# Altium footprint library Wurth_Elektronik_Passive_rev16a.PCBLIB: 810 footprints (part 4 of 51)
Each footprint in its own frame and in the unit in brackets; x right, y up, seen from the top. Pads: shape width x height; smd on the part's side, far side on the other; paste and mask are expansions set on the pad; w line width, h text height; cw(c..) or ccw(c..) is an arc to the next point about the centre after c.
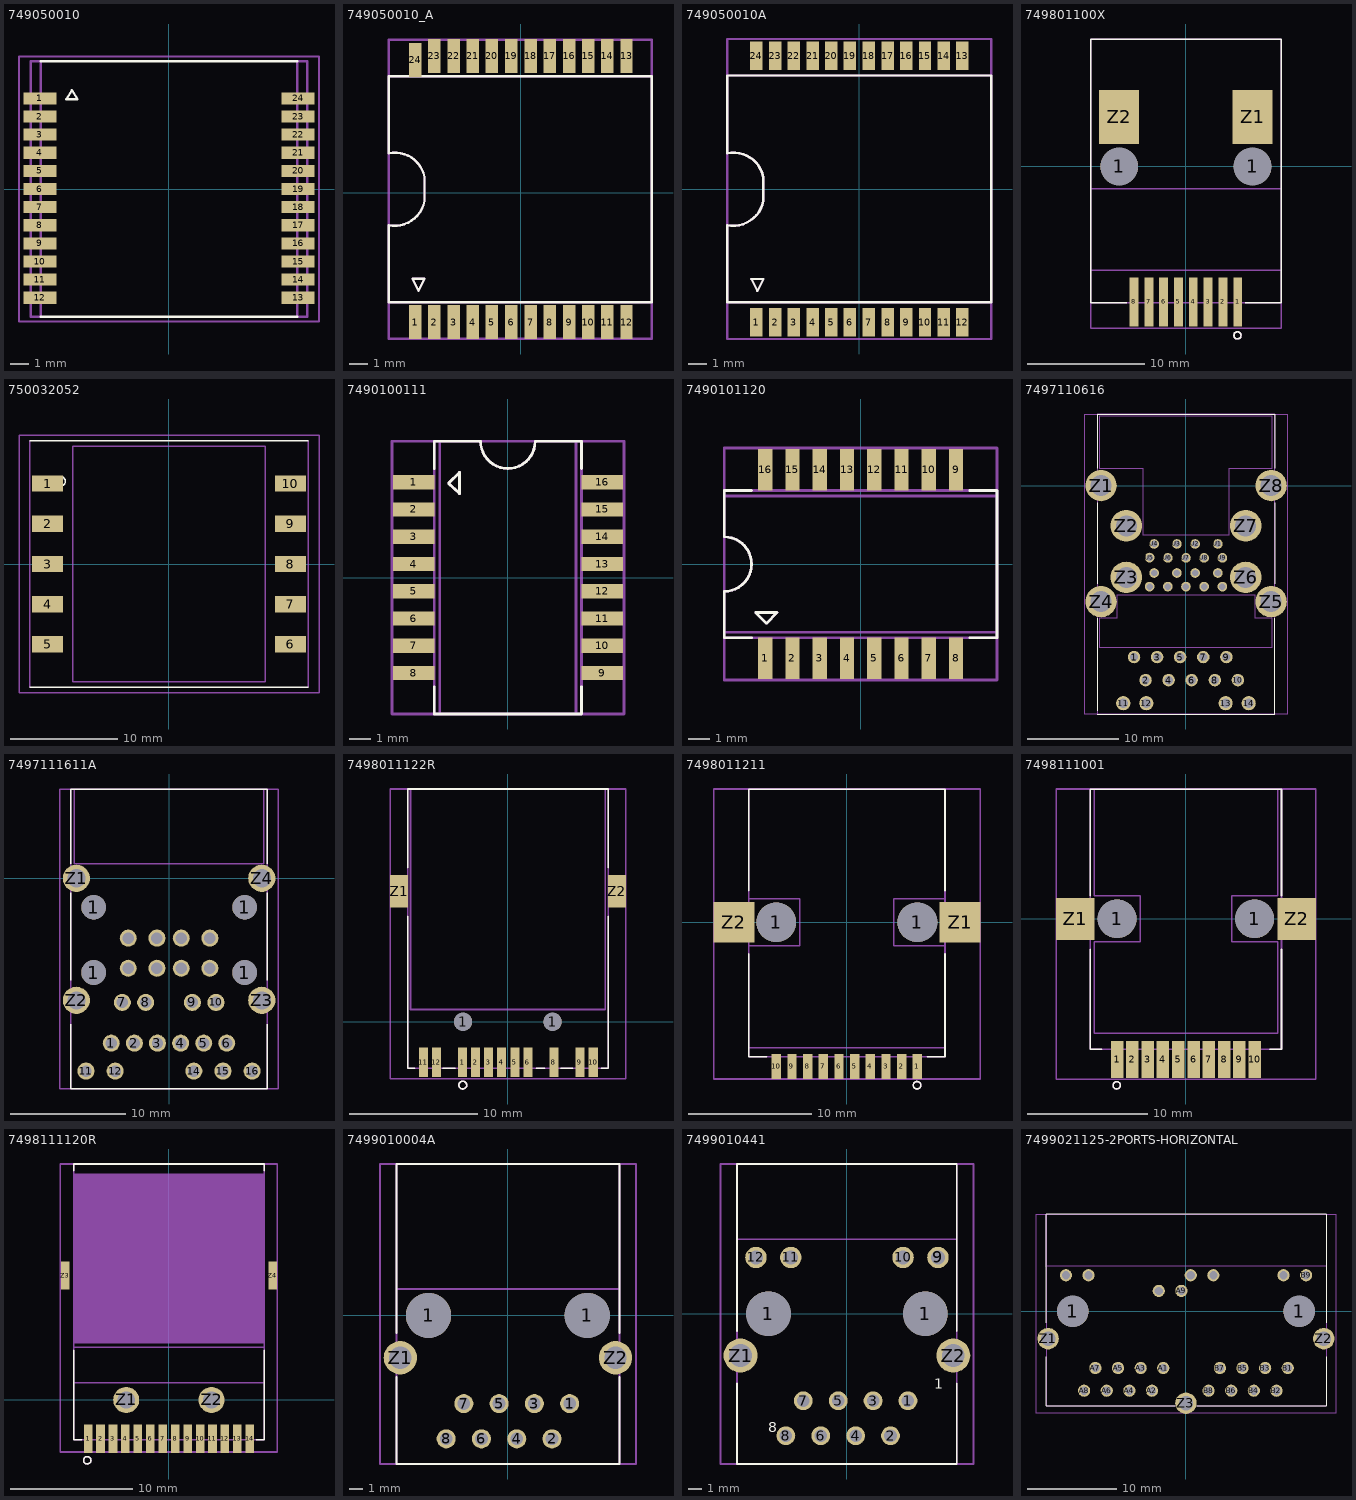
[diagram p3: the footprints below, top view; thin cyan lines are the x and y axes]

## 749050010 [mil]
pads (24):
  rect 71x26 smd: 1(-277.56,195) 2(-277.56,156) 3(-277.56,117) 4(-277.56,78) 5(-277.56,39) 6(-277.56,0) 7(-277.56,-38.98) 8(-277.56,-77.95) 9(-277.56,-116.93) 10(-277.56,-155.91) 11(-277.56,-194.88) 12(-277.56,-233.86) 13(278,-233.86) 14(278,-194.88) 15(278,-155.91) 16(278,-116.93) 17(278,-77.95) 18(278,-38.98) 19(278,0) 20(278,39) 21(278,78) 22(278,117) 23(278,156) 24(278,195)
Top Overlay:
  lines w5: -275.59,-275 276,-275 ; -275.59,275 276,275 ; -220.47,193 -208.66,213 -196.85,193 -220.47,193
Mechanical 2:
  text ">NAME" at -350,300 h77.5
Mechanical 4:
  lines w5: -297.44,-275 -275.59,-275 ; -297.44,275 -275.59,275 ; 276,-275 298,-275 ; 276,275 298,275
  text ">VALUE" at -350,-350 h77.5
Mechanical 16:
  lines w5: -297.44,-275 -297.44,275 ; -275.59,-275 -275.59,275 ; 276,-275 276,275 ; 298,-275 298,275
Mechanical 27:
  lines w5: -322.44,-284.84 -322.44,285 323,285 323,-284.84 -322.44,-284.84

## 749050010_A [mil]
pads (24):
  rect 26x71 smd: 1(-220.87,-270.08) 2(-180.71,-270.08) 3(-140.55,-270.08) 4(-100.39,-270.08) 5(-60.24,-270.08) 6(-20.08,-270.08) 7(21,-270.08) 8(61,-270.08) 9(101,-270.08) 10(141,-270.08) 11(181,-270.08) 12(221,-270.08) 13(221,286) 14(181,286) 15(141,286) 16(101,286) 17(61,286) 18(21,286) 19(-20.08,286) 20(-60.24,286) 21(-100.39,286) 22(-140.55,286) 23(-180.71,286) 24(-220.87,278)
Top Overlay:
  lines w5: -276.18,-228.74 274,-228.74 274,244 -276.18,244 -276.18,83 cw(c-263.68,20.5) -201.18,33 -201.18,-17.52 cw(c-263.68,-5.02) -276.18,-67.52 -276.18,-228.74 ; -226.18,-180.02 -213.68,-205.02 -201.18,-180.02 -226.18,-180.02
Mechanical 2:
  text ">NAME" at -301.18,-130.02 h77.5
Mechanical 4:
  text ">VALUE" at 349,-117.52 h77.5
Mechanical 10:
  lines w5: -276.18,-228.74 274,-228.74 274,244 -276.18,244 -276.18,-228.74
Mechanical 16:
  lines w5: -276.18,-228.74 274,-228.74 274,244 -276.18,244 -276.18,83 cw(c-263.68,20.5) -201.18,33 -201.18,-17.52 cw(c-263.68,-5.02) -276.18,-67.52 -276.18,-228.74 ; -226.18,-180.02 -213.68,-205.02 -201.18,-180.02 -226.18,-180.02
Mechanical 27:
  lines w5: -276.18,-305.02 274,-305.02 274,320 -276.18,320 -276.18,-305.02

## 749050010A [mil]
pads (24):
  rect 26x60 smd: 1(-214.37,-277.56) 2(-175.39,-277.56) 3(-136.42,-277.56) 4(-97.44,-277.56) 5(-58.46,-277.56) 6(-19.49,-277.56) 7(20,-277.56) 8(59,-277.56) 9(98,-277.56) 10(137,-277.56) 11(176,-277.56) 12(215,-277.56) 13(215,278) 14(176,278) 15(137,278) 16(98,278) 17(59,278) 18(20,278) 19(-19.49,278) 20(-58.46,278) 21(-97.44,278) 22(-136.42,278) 23(-175.39,278) 24(-214.37,278)
Top Overlay:
  lines w5: -275,-236.22 275,-236.22 275,237 -275,237 -275,75 cw(c-262.5,12.5) -200,25 -200,-25 cw(c-262.5,-12.5) -275,-75 -275,-236.22 ; -225,-187.5 -212.5,-212.5 -200,-187.5 -225,-187.5
Mechanical 2:
  text ">NAME" at -300,-137.5 h77.5
Mechanical 4:
  text ">VALUE" at 350,-125 h77.5
Mechanical 10:
  lines w5: -275,-236.22 275,-236.22 275,237 -275,237 -275,-236.22
Mechanical 16:
  lines w5: -275,-236.22 275,-236.22 275,237 -275,237 -275,75 cw(c-262.5,12.5) -200,25 -200,-25 cw(c-262.5,-12.5) -275,-75 -275,-236.22 ; -225,-187.5 -212.5,-212.5 -200,-187.5 -225,-187.5
Mechanical 27:
  lines w5: -275,-312.5 275,-312.5 275,313 -275,313 -275,-312.5

## 749801100X [mil]
pads (12):
  round 127 hole 127: 1(-225,0) 1(225,0)
  rect 30x165 smd: 1(175,-457.09) 2(125,-457.09) 3(75,-457.09) 4(25,-457.09) 5(-25,-457.09) 6(-75,-457.09) 7(-125,-457.09) 8(-175,-457.09)
  rect 135x181 smd: Z1(225,167) Z2(-225,167)
Top Overlay:
  circle w5: c174,-569.98 r12
  lines w5: -200,-459.84 -320.08,-459.84 -320.08,430 321,430 321,-459.84 200,-459.84
Mechanical 2:
  text ">NAME" at -25.1,482 h77.5
Mechanical 4:
  text ">VALUE" at -25.1,-625.69 h77.5
Mechanical 10:
  lines w5: -320.08,-350 321,-350 321,-75 200,-75 150,-75 -320.08,-75 -320.08,-350
Mechanical 16:
  circle w5: c174,-569.98 r12
  lines w5: -320.08,-459.84 321,-459.84 321,430 -320.08,430 -320.08,-459.84
Mechanical 27:
  lines w5: -320.08,-545.87 -320.08,430 321,430 321,-545.87 -320.08,-545.87

## 750032052 [mil]
pads (10):
  rect 115x60 smd: 1(-446.06,296) 2(-446.06,148) 3(-446.06,0) 4(-446.06,-147.64) 5(-446.06,-295.28) 6(447,-295.28) 7(447,-147.64) 8(447,0) 9(447,148) 10(447,296)
Top Overlay:
  circle w5: c-397.64,304 r17
  lines w5: -511.81,-452.76 512,-452.76 ; -511.81,453 512,453
Mechanical 2:
  text ">NAME" at -492.13,512 h77.5
Mechanical 4:
  text ">VALUE" at -492.13,-551.18 h77.5
Mechanical 10:
  lines w5: -354.33,-433.07 355,-433.07 355,434 -354.33,434 -354.33,-433.07
Mechanical 16:
  lines w5: -511.81,-452.76 -511.81,453 ; 512,-452.76 512,453
Mechanical 27:
  lines w5: -551.18,-472.44 552,-472.44 552,473 -551.18,473 -551.18,-472.44

## 7490100111 [mil]
pads (16):
  rect 76x26 smd: 1(-172.64,175) 2(-172.64,125) 3(-172.64,75) 4(-172.64,25) 5(-172.64,-25) 6(-172.64,-75) 7(-172.64,-125) 8(-172.64,-175) 9(173,-175) 10(173,-125) 11(173,-75) 12(173,-25) 13(173,25) 14(173,75) 15(173,125) 16(173,175)
Top Overlay:
  lines w5: -134.84,-200 -134.84,-250 135,-250 135,-200 ; -134.84,200 -134.84,250 -50,250 ccw(c0,250) 0,200 ccw(c0,250) 50,250 135,250 135,200 ; -108.46,173 -88.78,154 -88.78,193 -108.46,173
Mechanical 2:
  text ">NAME" at -118.11,276 h77.5
Mechanical 4:
  text ">VALUE" at -137.8,-334.65 h77.5
Mechanical 10:
  lines w5: -137.5,-250 -125,-250 ; -125,-250 125,-250 125,250 -125,250 -125,-250
Mechanical 16:
  lines w5: -134.84,-250 135,-250 135,250 50,250 cw(c0,250) 0,200 cw(c0,250) -50,250 -134.84,250 -134.84,-250 ; -108.46,173 -88.78,154 -88.78,193 -108.46,173
Mechanical 27:
  lines w5: -212.5,-250 -212.5,250 213,250 213,-250 -212.5,-250

## 7490101120 [mil]
pads (16):
  rect 26x76 smd: 1(-175,-172.64) 2(-125,-172.64) 3(-75,-172.64) 4(-25,-172.64) 5(25,-172.64) 6(75,-172.64) 7(125,-172.64) 8(175,-172.64) 9(175,173) 10(125,173) 11(75,173) 12(25,173) 13(-25,173) 14(-75,173) 15(-125,173) 16(-175,173)
Top Overlay:
  lines w5: -200,-134.84 -250,-134.84 -250,-50 ccw(c-250,0) -200,0 ccw(c-250,0) -250,50 -250,135 -200,135 ; 200,-134.84 250,-134.84 250,135 200,135 ; -192.52,-88.78 -172.83,-108.46 -153.15,-88.78 -192.52,-88.78
Mechanical 2:
  text ">NAME" at -275.59,-118.11 h77.5
Mechanical 4:
  text ">VALUE" at 335,-137.8 h77.5
  text ">VALUE" at 335,-137.8 h77.5
Mechanical 10:
  lines w5: -250,-125 250,-125 250,125 -250,125 -250,-125
Mechanical 16:
  lines w5: -250,-134.84 -250,-50 ccw(c-250,0) -200,0 ccw(c-250,0) -250,50 -250,135 250,135 250,-134.84 -250,-134.84 ; -192.52,-88.78 -172.83,-108.46 -153.15,-88.78 -192.52,-88.78
Mechanical 27:
  lines w5: -250,-212.5 250,-212.5 250,213 -250,213 -250,-212.5

## 7497110616 [mil]
pads (40):
  round 54 hole 36: 1(-225,-743.31) 2(-175,-843.31) 3(-125,-743.31) 4(-75,-843.31) 5(-25,-743.31) 6(25,-843.31) 7(75,-743.31) 8(125,-843.31) 9(175,-743.31) 10(225,-843.31)
  round 61.5 hole 41: 11(-271.65,-943.31) 12(-171.65,-943.31) 13(172,-943.31) 14(272,-943.31)
  round 42 hole 28: U1(138,-253.15) U2(40,-253.15) U3(-39.37,-253.15) U4(-137.8,-253.15) U5(-157.48,-312.2) U6(-78.74,-313.39) U7(0,-313.39) U8(79,-313.39) U9(158,-313.39) U10(138,-379.13) U11(40,-379.13) U12(-39.37,-379.13) U13(-137.8,-379.13) U14(-157.48,-438.19) U15(-78.74,-438.19) U16(0,-438.19) U17(79,-438.19) U18(158,-438.19)
  round 136.5 hole 91: Z1(-368.11,0) Z2(-258.66,-174.41) Z3(-258.66,-398.03) Z4(-368.11,-503.15) Z5(369,-503.15) Z6(259,-398.03) Z7(259,-174.41) Z8(369,0)
Top Overlay:
  lines w5: -383.86,-990.16 384,-990.16 384,-575 ; -383.86,-975 -383.86,-575 ; -383.86,-425 -383.86,-75 ; -383.86,75 -383.86,310 384,310 384,75 ; 384,-425 384,-75
Mechanical 2:
  text ">NAME" at -96.65,318 h77.5
Mechanical 4:
  text ">VALUE" at -146.65,-1050.43 h77.5
Mechanical 10:
  lines w5: -375,-700 375,-700 375,-575 300,-575 300,-475 -300,-475 -300,-575 -375,-575 -375,-700 ; -375,75 -375,300 375,300 375,75 188,75 188,-212.5 -187.5,-212.5 -187.5,75 -375,75
Mechanical 16:
  lines w5: -383.86,-990.16 384,-990.16 384,310 -383.86,310 -383.86,-990.16
Mechanical 27:
  lines w5: -437.5,-990.16 438,-990.16 438,310 -437.5,310 -437.5,-990.16

## 7497111611A [mil]
pads (31):
  round 84 hole 84: 1(-258.46,-322.83) 1(-258.46,-98.82) 1(259,-322.83) 1(259,-98.82)
  round 58.5 hole 39: 1(-197.83,-564.96) 2(-118.7,-564.96) 3(-39.57,-564.96) 4(40,-564.96) 5(119,-564.96) 6(198,-564.96) 7(-160.04,-425.2) 8(-79.92,-425.2) 9(80,-425.2) 10(161,-425.2) 11(-284.45,-660.63) 12(-184.45,-660.63) 14(85,-660.63) 15(185,-660.63) 16(285,-660.63) USB1-1(140,-205.12) USB1-2(42,-205.12) USB1-3(-41.34,-205.12) USB1-4(-139.76,-205.12) USB2-1(140,-308.27) USB2-2(42,-308.27) USB2-3(-41.34,-308.27) USB2-4(-139.76,-308.27)
  round 93 hole 62: Z1(-317.52,0) Z2(-317.52,-418.11) Z3(318,-418.11) Z4(318,0)
Top Overlay:
  lines w5: -336.42,-500 -336.42,-722.05 337,-722.05 337,-500 ; -336.42,-350 -336.42,-50 ; -336.42,50 -336.42,306 337,306 337,50 ; 337,-350 337,-50
Mechanical 2:
  text ">NAME" at -129.53,314 h77.5
Mechanical 4:
  text ">VALUE" at -129.53,-774.02 h77.5
Mechanical 10:
  lines w5: -325,50 325,50 325,306 -325,306 -325,50
Mechanical 16:
  lines w5: -336.42,-722.05 337,-722.05 337,306 -336.42,306 -336.42,-722.05
Mechanical 27:
  lines w5: -375,-722.05 375,-722.05 375,306 -375,306 -375,-722.05

## 7498011122R [mil]
pads (15):
  rect 28x91 smd: 1(-139.57,-125.2) 2(-99.41,-125.2) 3(-59.25,-125.2) 4(-19.09,-125.2) 5(22,-125.2) 6(62,-125.2) 8(142,-125.2) 9(222,-125.2) 10(263,-125.2) 11(-260.04,-125.2) 12(-219.88,-125.2)
  round 56 hole 56: 1(-137.8,0) 1(138,0)
  rect 56x100 smd: Z1(-335.04,402) Z2(336,402)
Top Overlay:
  circle w5: c-138.78,-194.98 r12
  lines w5: -308.07,325 -308.07,-142.91 -287.5,-142.91 ; -308.07,475 -308.07,717 309,717 309,475 ; -200,-142.91 -162.5,-142.91 ; 88,-142.91 113,-142.91 ; 163,-142.91 200,-142.91 ; 288,-142.91 309,-142.91 309,325
Mechanical 2:
  text ">NAME" at -110.8,750 h77.5
Mechanical 4:
  text ">VALUE" at -123.3,-271.12 h77.5
Mechanical 10:
  lines w5: -300,38 300,38 300,717 -300,717 -300,38
Mechanical 16:
  circle w5: c-138.78,-194.98 r12
  lines w5: -308.07,-142.91 309,-142.91 309,717 -308.07,717 -308.07,-142.91
Mechanical 27:
  lines w5: -362.5,-175 363,-175 363,717 -362.5,717 -362.5,-175

## 7498011211 [mil]
pads (14):
  round 127 hole 127: 1(-225,0) 1(225,0)
  rect 30x80 smd: 1(225,-459.84) 2(175,-459.84) 3(125,-459.84) 4(75,-459.84) 5(25,-459.84) 6(-25,-459.84) 7(-75,-459.84) 8(-125,-459.84) 9(-175,-459.84) 10(-225,-459.84)
  rect 130x130 smd: Z1(361,0) Z2(-360.04,0)
Top Overlay:
  circle w5: c224,-519.98 r12
  lines w5: -312.6,-100 -312.6,-428.74 -255.91,-428.74 ; -312.6,100 -312.6,424 313,424 313,100 ; 256,-428.74 313,-428.74 313,-100
Mechanical 2:
  text ">NAME" at -125.1,432 h77.5
Mechanical 4:
  text ">VALUE" at -125.1,-625.69 h77.5
Mechanical 10:
  lines w5: -312.6,-400 313,-400 313,-75 150,-75 150,75 313,75 313,424 -312.6,424 -312.6,75 -150,75 -150,-75 -312.6,-75 -312.6,-400
Mechanical 16:
  circle w5: c224,-519.98 r12
  lines w5: -312.6,-428.74 313,-428.74 313,424 -312.6,424 -312.6,-428.74
Mechanical 27:
  lines w5: -425,-500 425,-500 425,425 -425,425 -425,-500

## 7498111001 [mil]
pads (14):
  rect 41x121 smd: 1(-225,-459.84) 2(-175,-459.84) 3(-125,-459.84) 4(-75,-459.84) 5(-25,-459.84) 6(25,-459.84) 7(75,-459.84) 8(125,-459.84) 9(175,-459.84) 10(225,-459.84)
  round 127 hole 127: 1(-225,0) 1(225,0)
  rect 126x138 smd: Z1(-362.2,0) Z2(363,0)
Top Overlay:
  circle w5: c-226.28,-544.98 r12
  lines w5: -312.6,-100 -312.6,-426.77 -275,-426.77 ; -312.6,75 -312.6,424 313,424 313,75 ; 275,-426.77 313,-426.77 313,-100
Mechanical 2:
  text ">NAME" at -131.15,482 h77.5
Mechanical 4:
  text ">VALUE" at -131.15,-613.77 h77.5
Mechanical 10:
  lines w5: -300,-375 300,-375 300,-75 150,-75 150,75 300,75 300,424 -300,424 -300,75 -150,75 -150,-75 -300,-75 -300,-375
Mechanical 16:
  circle w5: c-226.28,-544.98 r12
  lines w5: -312.6,-426.77 -312.6,424 313,424 313,-426.77 -312.6,-426.77
Mechanical 27:
  lines w5: -425,-525 425,-525 425,425 -425,425 -425,-525

## 7498111120R [mil]
pads (18):
  rect 28x91 smd: 1(-261.02,-125.2) 2(-220.87,-125.2) 3(-180.71,-125.2) 4(-140.55,-125.2) 5(-100.39,-125.2) 6(-60.24,-125.2) 7(-20.08,-125.2) 8(21,-125.2) 9(61,-125.2) 10(101,-125.2) 11(141,-125.2) 12(181,-125.2) 13(221,-125.2) 14(262,-125.2) Z3(-335.04,402) Z4(336,402)
  round 84 hole 56: Z1(-137.8,0) Z2(138,0)
Top Overlay:
  circle w5: c-263.78,-194.98 r12
  lines w5: -308.07,161 -308.07,-128.74 -281.1,-128.74 ; -308.07,741 -308.07,763 309,763 309,741 ; 282,-128.74 309,-128.74 309,161
Mechanical 1:
  rectangle: -307.48,182 308,732
Mechanical 10:
  lines w5: -308.07,55 309,55 309,170 -308.07,170 -308.07,55
Mechanical 11:
  rectangle: -307.48,182 308,732
Mechanical 16:
  circle w5: c-263.78,-194.98 r12
  lines w5: -308.07,-128.74 309,-128.74 309,763 -308.07,763 -308.07,-128.74
Mechanical 27:
  lines w5: -350.57,-168.25 351,-168.25 351,763 -350.57,763 -350.57,-168.25

## 7499010004A [mil]
pads (12):
  round 128 hole 128: 1(-225,0) 1(225,0)
  round 54 hole 36: 1(175,-250) 2(125,-350) 3(75,-250) 4(25,-350) 5(-25,-250) 6(-75,-350) 7(-125,-250) 8(-175,-350)
  round 94.5 hole 63: Z1(-304.92,-120.08) Z2(305,-120.08)
Top Overlay:
  lines w5: -315.75,-175 -315.75,-421.26 316,-421.26 316,-175 ; -315.75,-50 -315.75,429 316,429 316,-50
Mechanical 2:
  text ">NAME" at -18.44,487 h77.5
Mechanical 4:
  text ">VALUE" at 32,-460.57 h77.5
Mechanical 10:
  lines w5: -315.75,75 316,75 316,429 -315.75,429 -315.75,75
Mechanical 16:
  lines w5: -315.75,-421.26 -315.75,429 316,429 316,-421.26 -315.75,-421.26
  text "1" at 250,-225 h49.6
  text "8" at -225,-350 h49.6
Mechanical 27:
  lines w5: -362.5,-421.26 363,-421.26 363,429 -362.5,429 -362.5,-421.26

## 7499010441 [mil]
pads (16):
  round 128 hole 128: 1(-225,0) 1(225,0)
  round 54 hole 36: 1(175,-250) 2(125,-350) 3(75,-250) 4(25,-350) 5(-25,-250) 6(-75,-350) 7(-125,-250) 8(-175,-350)
  round 61.5 hole 41: 9(261,161) 10(161,161) 11(-160.83,161) 12(-260.83,161)
  round 97.5 hole 65: Z1(-304.92,-120.08) Z2(305,-120.08)
Top Overlay:
  lines w5: -314.96,-200 -314.96,-431.1 315,-431.1 315,-200 ; -314.96,-50 -314.96,429 315,429 315,-50
  text "1" at 250,-225 h49.6
  text "8" at -225,-350 h49.6
Mechanical 2:
  text ">NAME" at -18.44,487 h77.5
Mechanical 4:
  text ">VALUE" at -18.44,-460.57 h77.5
Mechanical 10:
  lines w5: -314.96,213 -314.96,429 315,429 315,213 -314.96,213
Mechanical 16:
  lines w5: -314.96,-431.1 315,-431.1 315,429 -314.96,429 -314.96,-431.1
Mechanical 27:
  lines w5: -362.5,-431.1 363,-431.1 363,429 -362.5,429 -362.5,-431.1

## 7499021125-2PORTS-HORIZONTAL [mil]
pads (29):
  round 139 hole 139: 1(-500,0) 1(500,0)
  round 54 hole 36: A1(-100,-250) A2(-150,-350) A3(-200,-250) A4(-250,-350) A5(-300,-250) A6(-350,-350) A7(-400,-250) A8(-450,-350) A9(-20.08,91) A10(-120.08,91) A11(-430.31,160) A12(-530.32,160) B1(450,-250) B2(400,-350) B3(350,-250) B4(300,-350) B5(250,-250) B6(200,-350) B7(150,-250) B8(100,-350) B9(531,160) B10(431,160) B11(121,160) B12(21,160)
  round 94.5 hole 63: Z1(-608.86,-120.08) Z2(609,-120.08) Z3(0,-405.12)
Top Overlay:
  lines w5: -618.11,-200 -618.11,-417.32 -50,-417.32 ; -618.11,-50 -618.11,430 619,430 619,-50 ; 50,-417.32 619,-417.32 619,-200
Mechanical 2:
  text ">NAME" at -170.8,482 h77.5
Mechanical 4:
  text ">VALUE" at -120.8,-538.18 h77.5
Mechanical 10:
  lines w5: -618.11,200 619,200 619,430 -618.11,430 -618.11,200
Mechanical 16:
  lines w5: -618.11,-417.32 -618.11,430 619,430 619,-417.32 -618.11,-417.32
  text "1" at -25,-225 h49.6
  text "8" at -500,-350 h49.6
  text "8" at 50,-300 h49.6
  text "1" at 525,-225 h49.6
Mechanical 27:
  lines w5: -662.5,-450 663,-450 663,430 -662.5,430 -662.5,-450